# Altium footprint library PCB - LEADED - SOP - MICROCHIP TSSOP-14 4.4MM BODY.PCBLIB: 1 footprints
Each footprint in its own frame and in the unit in brackets; x right, y up, seen from the top. Pads: shape width x height; smd on the part's side, far side on the other; paste and mask are expansions set on the pad; w line width, h text height; cw(c..) or ccw(c..) is an arc to the next point about the centre after c.
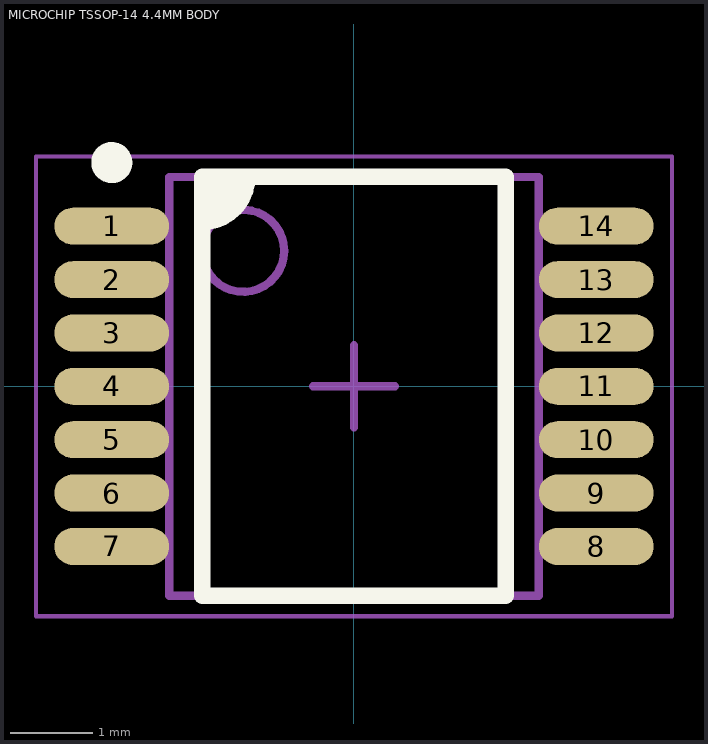
[diagram p0: the footprint, top view; thin cyan lines are the x and y axes]

## MICROCHIP TSSOP-14 4.4MM BODY [mm] "TSSOP, 14-Leads, Body 5.00x4.40mm, Pitch 0.65mm, IPC Medium Density"
height 1.2
pads (14):
  oval 1.4x0.45 smd: 1(-2.95,1.95) 2(-2.95,1.3) 3(-2.95,0.65) 4(-2.95,0) 5(-2.95,-0.65) 6(-2.95,-1.3) 7(-2.95,-1.95) 8(2.95,-1.95) 9(2.95,-1.3) 10(2.95,-0.65) 11(2.95,0) 12(2.95,0.65) 13(2.95,1.3) 14(2.95,1.95)
Top Overlay:
  circle w0.25: c-2.95,2.725 r0.125
  region: -1.3,2.55 -1.3,2.3 -1.6,2 -1.85,2 -1.85,2.55
  lines w0.2: -1.85,2 ccw(c-1.85,2.55) -1.3,2.55 ; -1.85,-2.55 1.85,-2.55 1.85,2.55 -1.85,2.55 -1.85,-2.55
Top Component Center:
  lines w0.1: -0.5,0 0.5,0 ; 0,-0.5 0,0.5
Top Assembly:
  circle w0.1: c-1.35,1.65 r0.5
  lines w0.1: -2.25,-2.55 -2.25,2.55 2.25,2.55 2.25,-2.55 -2.25,-2.55
Top Courtyard:
  lines w0.05: -3.875,-2.8 -3.875,2.8 3.875,2.8 3.875,-2.8 -3.875,-2.8
3D body "TSSOP-14.STEP": height 1.2, standoff 0, extent -3.211,-2.5 3.21,2.5